# EAGLE library part I2S-MODULE-PCM5102A (library I2S-MODULE-PCM5102A)
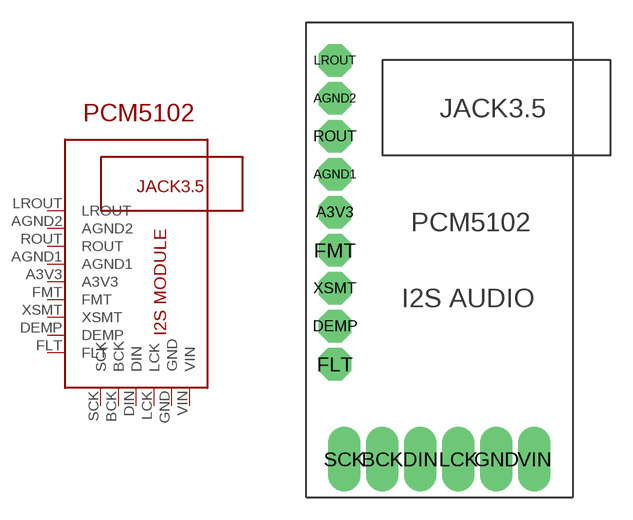
[diagram p0: symbol with the pads of I2S-MODULE-PCM5102A; footprint I2S-MODULE-PCM5102A]

Designator prefix -

## I2S-MODULE-PCM5102A  [I2S-MODULE-PCM5102A]
A3V3  A3V3
AGND1  AGND1
AGND2  AGND2
BCK  BCK
DEMP  DEMP
DIN  DIN
FLT  FLT
FMT  FMT
GND  GND
LCK  LCK
LROUT  LROUT
ROUT  ROUT
SCK  SCK
VIN  VIN
XSMT  XSMT

## Footprint I2S-MODULE-PCM5102A (pad centres in mm)
drill 1 pad 2.184 octagon: A3V3 -6.985,3.175; AGND1 -6.985,5.715; AGND2 -6.985,10.795; DEMP -6.985,-4.445; FLT -6.985,-6.985; FMT -6.985,0.635; LROUT -6.985,13.335; ROUT -6.985,8.255; XSMT -6.985,-1.905
drill 1 pad 2.184 long: BCK -3.81,-13.335; DIN -1.27,-13.335; GND 3.81,-13.335; LCK 1.27,-13.335; SCK -6.35,-13.335; VIN 6.35,-13.335